# EAGLE library part IL261 (library Dmitry)
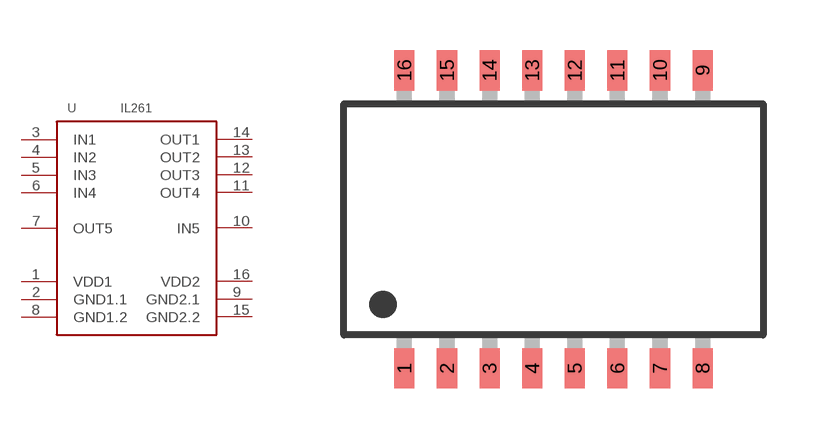
[diagram p15: symbol with the pads of SOIC-16; footprint SOIC-16]

Designator prefix U

## IL261  [SOIC-16]
1  VDD1
2  GND1.1
3  IN1
4  IN2
5  IN3
6  IN4
7  OUT5
8  GND1.2
9  GND2.1
10  IN5
11  OUT4
12  OUT3
13  OUT2
14  OUT1
15  GND2.2
16  VDD2

## Footprint SOIC-16 (pad centres in mm)
IL261 SOIC-16 5 ch optoisolator
smd 0.6 x 1.2: 1 -4.445,-4.445; 2 -3.175,-4.445; 3 -1.905,-4.445; 4 -0.635,-4.445; 5 0.635,-4.445; 6 1.905,-4.445; 7 3.175,-4.445; 8 4.445,-4.445; 9 4.445,4.445; 10 3.175,4.445; 11 1.905,4.445; 12 0.635,4.445; 13 -0.635,4.445; 14 -1.905,4.445; 15 -3.175,4.445; 16 -4.445,4.445